# EAGLE library part KNRF51822_A24 (library DROID)
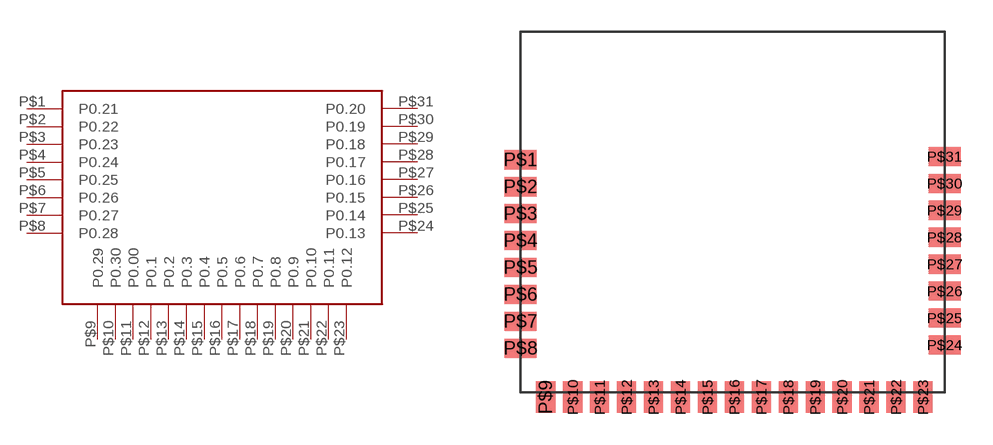
[diagram p3: symbol with the pads of KNRF51822; footprint KNRF51822]

Designator prefix -

## KNRF51822_A24  [KNRF51822]
P$1  P0.21
P$2  P0.22
P$3  P0.23
P$4  P0.24
P$5  P0.25
P$6  P0.26
P$7  P0.27
P$8  P0.28
P$9  P0.29
P$10  P0.30
P$11  P0.00
P$12  P0.1
P$13  P0.2
P$14  P0.3
P$15  P0.4
P$16  P0.5
P$17  P0.6
P$18  P0.7
P$19  P0.8
P$20  P0.9
P$21  P0.10
P$22  P0.11
P$23  P0.12
P$24  P0.13
P$25  P0.14
P$26  P0.15
P$27  P0.16
P$28  P0.17
P$29  P0.18
P$30  P0.19
P$31  P0.20

## Footprint KNRF51822 (pad centres in mm)
smd 1.5 x 0.9: P$1 -10,2.46; P$2 -10,1.19; P$3 -10,-0.08; P$4 -10,-1.35; P$5 -10,-2.62; P$6 -10,-3.89; P$7 -10,-5.16; P$8 -10,-6.43; P$24 10,-6.27; P$25 10,-5; P$26 10,-3.73; P$27 10,-2.46; P$28 10,-1.19; P$29 10,0.08; P$30 10,1.35; P$31 10,2.62
smd 0.9 x 1.5: P$9 -8.81,-8.73; P$10 -7.54,-8.73; P$11 -6.27,-8.73; P$12 -5,-8.73; P$13 -3.73,-8.73; P$14 -2.46,-8.73; P$15 -1.19,-8.73; P$16 0.08,-8.73; P$17 1.35,-8.73; P$18 2.62,-8.73; P$19 3.89,-8.73; P$20 5.16,-8.73; P$21 6.43,-8.73; P$22 7.7,-8.73; P$23 8.97,-8.73